# Altium footprint library Package_SON.PcbLib: 75 footprints (part 5 of 5)
Each footprint in its own frame and in the unit in brackets; x right, y up, seen from the top. Pads: shape width x height; smd on the part's side, far side on the other; paste and mask are expansions set on the pad; w line width, h text height; cw(c..) or ccw(c..) is an arc to the next point about the centre after c.
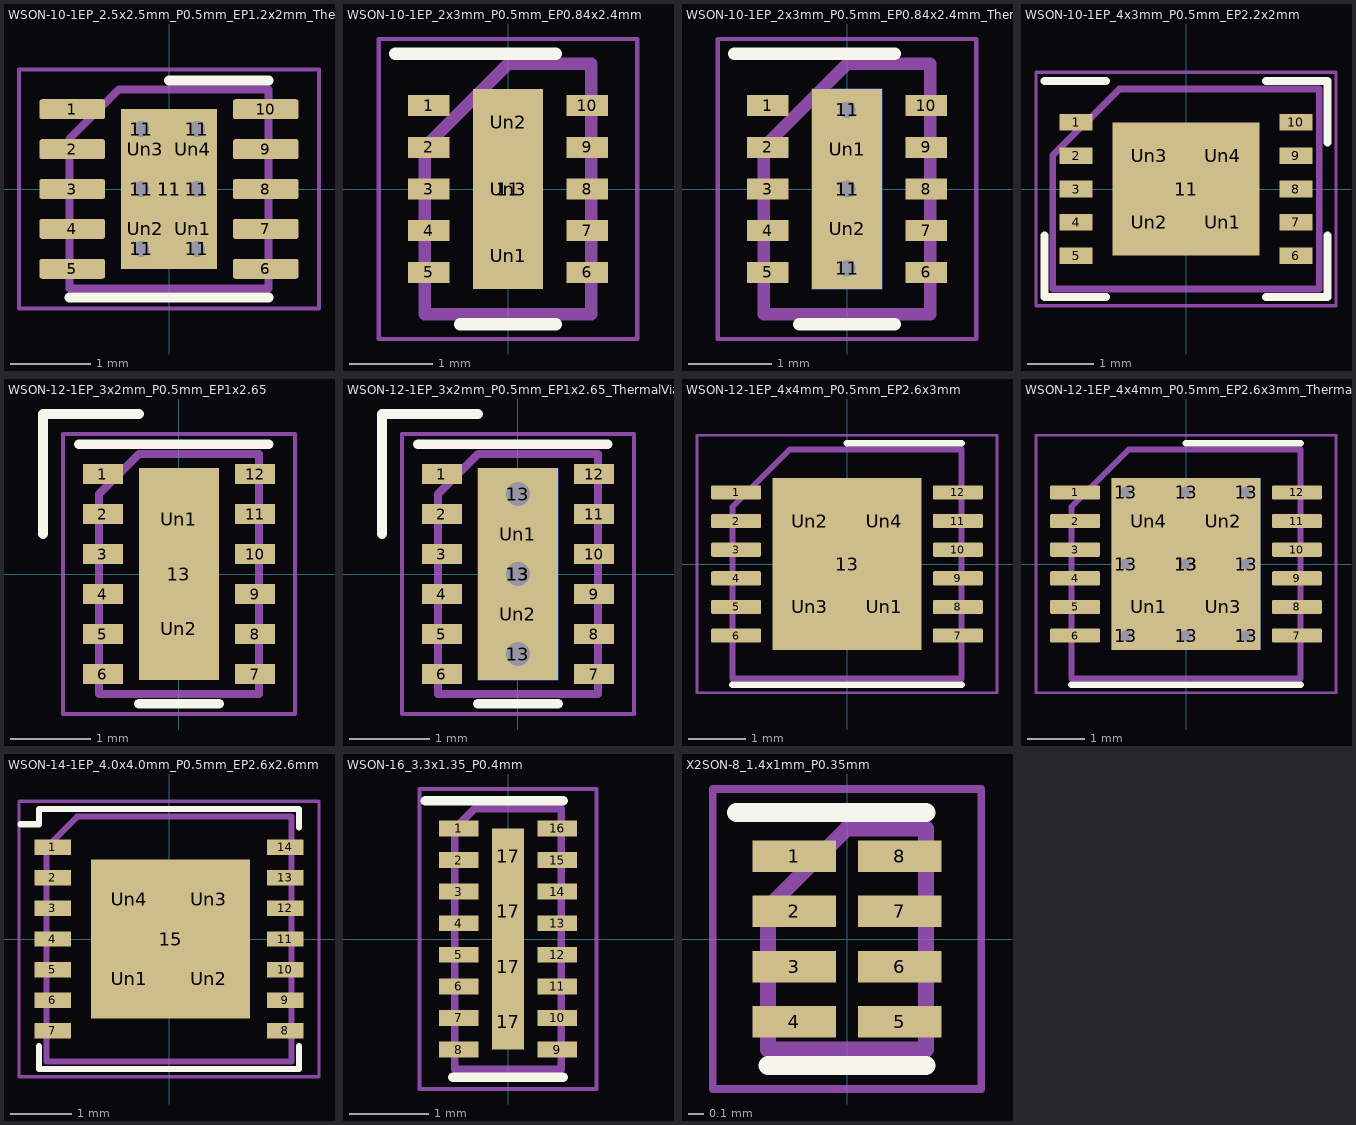
[diagram p4: the footprints below, top view; thin cyan lines are the x and y axes]

## WSON-10-1EP_2.5x2.5mm_P0.5mm_EP1.2x2mm_ThermalVias [mm]
pads (22):
  rrect25% 0.825x0.25 smd: 1(-1.212,1) 2(-1.212,0.5) 3(-1.212,0) 4(-1.212,-0.5) 5(-1.212,-1) 6(1.212,-1) 7(1.212,-0.5) 8(1.212,0) 9(1.212,0.5) 10(1.212,1)
  round 0.5 hole 0.2: 11(-0.35,-0.75) 11(-0.35,0) 11(-0.35,0.75) 11(0.35,-0.75) 11(0.35,0) 11(0.35,0.75)
  rect 1.2x2 smd: 11(0,0)
  rect 1.2x2 smd far side: 11(0,0)
  rrect25% 0.52x0.87 on Top Paste: Un1(0.3,-0.5) Un2(-0.3,-0.5) Un3(-0.3,0.5) Un4(0.3,0.5)
F.SilkS:
  lines w0.12: -1.25,-1.36 1.25,-1.36 ; 0,1.36 1.25,1.36
F.CrtYd:
  lines w0.05: -1.88,-1.5 -1.88,1.5 1.88,1.5 1.88,-1.5 -1.88,-1.5
F.Fab:
  lines w0.1: -1.25,-1.25 1.25,-1.25 1.25,1.25 -0.625,1.25 -1.25,0.625 -1.25,-1.25
  text "'.Designator'" at -2.506,-0.518 h0.62

## WSON-10-1EP_2x3mm_P0.5mm_EP0.84x2.4mm [mm]
pads (14):
  rect 0.5x0.25 smd: 1(-0.95,1) 2(-0.95,0.5) 3(-0.95,0) 4(-0.95,-0.5) 5(-0.95,-1) 6(0.95,-1) 7(0.95,-0.5) 8(0.95,0) 9(0.95,0.5) 10(0.95,1)
  rect 0.84x2.4 smd: 11(0,0)
  rect 0.65x0.61 on Top Paste: Un1(0,-0.8) Un2(0,0.8) Un3(0,0)
F.SilkS:
  lines w0.15: -1.35,1.625 0.575,1.625 ; -0.575,-1.625 0.575,-1.625
F.CrtYd:
  lines w0.05: -1.55,-1.8 1.55,-1.8 1.55,1.8 -1.55,1.8 -1.55,-1.8
F.Fab:
  lines w0.15: -1,-1.5 -1,0.5 0,1.5 1,1.5 1,-1.5 -1,-1.5
  text "'.Designator'" at -2.023,-0.42 h0.5

## WSON-10-1EP_2x3mm_P0.5mm_EP0.84x2.4mm_ThermalVias [mm]
pads (17):
  rect 0.5x0.25 smd: 1(-0.95,1) 2(-0.95,0.5) 3(-0.95,0) 4(-0.95,-0.5) 5(-0.95,-1) 6(0.95,-1) 7(0.95,-0.5) 8(0.95,0) 9(0.95,0.5) 10(0.95,1)
  round 0.5 hole 0.2: 11(0,-0.95) 11(0,0) 11(0,0.95)
  rect 0.84x2.4 smd: 11(0,0)
  rect 0.84x2.4 smd far side: 11(0,0)
  rect 0.65x0.7 on Top Paste: Un1(0,0.475) Un2(0,-0.475)
F.SilkS:
  lines w0.15: -1.35,1.625 0.575,1.625 ; -0.575,-1.625 0.575,-1.625
F.CrtYd:
  lines w0.05: -1.55,-1.8 1.55,-1.8 1.55,1.8 -1.55,1.8 -1.55,-1.8
F.Fab:
  lines w0.15: -1,-1.5 -1,0.5 0,1.5 1,1.5 1,-1.5 -1,-1.5
  text "'.Designator'" at -2.023,-0.42 h0.5

## WSON-10-1EP_4x3mm_P0.5mm_EP2.2x2mm [mm]
pads (15):
  rect 0.5x0.25 smd: 1(-1.65,1) 2(-1.65,0.5) 3(-1.65,0) 4(-1.65,-0.5) 5(-1.65,-1) 6(1.65,-1) 7(1.65,-0.5) 8(1.65,0) 9(1.65,0.5) 10(1.65,1)
  rect 2.2x2 smd: 11(0,0)
  rect 0.88x0.8 on Top Paste: Un1(0.55,-0.5) Un2(-0.55,-0.5) Un3(-0.55,0.5) Un4(0.55,0.5)
F.SilkS:
  lines w0.12: -2.12,-0.7 -2.12,-1.62 -1.2,-1.62 ; -2.12,1.62 -1.2,1.62 ; 1.2,-1.62 2.12,-1.62 2.12,-0.7 ; 1.2,1.62 2.12,1.62 2.12,0.7
F.CrtYd:
  lines w0.05: -2.25,-1.75 -2.25,1.75 2.25,1.75 2.25,-1.75 -2.25,-1.75
F.Fab:
  lines w0.1: -2,-1.5 -2,0.5 -1,1.5 2,1.5 2,-1.5 -2,-1.5
  text "'.Designator'" at -4.047,-0.84 h1

## WSON-12-1EP_3x2mm_P0.5mm_EP1x2.65 [mm]
pads (15):
  rect 0.5x0.25 smd: 1(-0.95,1.25) 2(-0.95,0.75) 3(-0.95,0.25) 4(-0.95,-0.25) 5(-0.95,-0.75) 6(-0.95,-1.25) 7(0.95,-1.25) 8(0.95,-0.75) 9(0.95,-0.25) 10(0.95,0.25) 11(0.95,0.75) 12(0.95,1.25)
  rect 1x2.65 smd: 13(0,0)
  rect 0.95x1.17 on Top Paste: Un1(0,0.685) Un2(0,-0.685)
F.SilkS:
  lines w0.12: -1.7,0.5 -1.7,2 -0.5,2 ; -1.25,1.62 1.12,1.62 ; -0.5,-1.62 0.5,-1.62
F.CrtYd:
  lines w0.05: -1.45,-1.75 -1.45,1.75 1.45,1.75 1.45,-1.75 -1.45,-1.75
F.Fab:
  lines w0.1: -1,-1.5 1,-1.5 1,1.5 -0.5,1.5 -1,1 -1,-1.5
  text "'.Designator'" at 0.395,-1.748 h0.5

## WSON-12-1EP_3x2mm_P0.5mm_EP1x2.65_ThermalVias [mm]
pads (19):
  rect 0.5x0.25 smd: 1(-0.95,1.25) 2(-0.95,0.75) 3(-0.95,0.25) 4(-0.95,-0.25) 5(-0.95,-0.75) 6(-0.95,-1.25) 7(0.95,-1.25) 8(0.95,-0.75) 9(0.95,-0.25) 10(0.95,0.25) 11(0.95,0.75) 12(0.95,1.25)
  round 0.6 hole 0.3: 13(0,-1) 13(0,0) 13(0,1)
  rect 1x2.65 smd far side: 13(0,0)
  rect 1x2.65 smd: 13(0,0)
  rect 0.95x0.8 on Top Paste: Un1(0,0.5) Un2(0,-0.5)
F.SilkS:
  lines w0.12: -1.7,0.5 -1.7,2 -0.5,2 ; -1.25,1.62 1.12,1.62 ; -0.5,-1.62 0.5,-1.62
F.CrtYd:
  lines w0.05: -1.45,-1.75 1.45,-1.75 1.45,1.75 -1.45,1.75 -1.45,-1.75
F.Fab:
  lines w0.1: -1,-1.5 -1,1 -0.5,1.5 1,1.5 1,-1.5 -1,-1.5
  text "'.Designator'" at 0.395,-1.748 h0.5

## WSON-12-1EP_4x4mm_P0.5mm_EP2.6x3mm [mm]
pads (17):
  rrect25% 0.875x0.25 smd: 1(-1.937,1.25) 2(-1.937,0.75) 3(-1.937,0.25) 4(-1.937,-0.25) 5(-1.937,-0.75) 6(-1.937,-1.25) 7(1.937,-1.25) 8(1.937,-0.75) 9(1.937,-0.25) 10(1.937,0.25) 11(1.937,0.75) 12(1.937,1.25)
  rect 2.6x3 smd: 13(0,0)
  rrect24% 1.05x1.21 on Top Paste: Un1(0.65,-0.75) Un2(-0.65,0.75) Un3(-0.65,-0.75) Un4(0.65,0.75)
F.SilkS:
  lines w0.12: -2,-2.11 2,-2.11 ; 0,2.11 2,2.11
F.CrtYd:
  lines w0.05: -2.62,-2.25 2.62,-2.25 2.62,2.25 -2.62,2.25 -2.62,-2.25
F.Fab:
  lines w0.1: -2,-2 2,-2 2,2 -1,2 -2,1 -2,-2
  text "'.Designator'" at -4.047,-0.84 h1

## WSON-12-1EP_4x4mm_P0.5mm_EP2.6x3mm_ThermalVias [mm]
pads (27):
  rrect25% 0.875x0.25 smd: 1(-1.937,1.25) 2(-1.937,0.75) 3(-1.937,0.25) 4(-1.937,-0.25) 5(-1.937,-0.75) 6(-1.937,-1.25) 7(1.937,-1.25) 8(1.937,-0.75) 9(1.937,-0.25) 10(1.937,0.25) 11(1.937,0.75) 12(1.937,1.25)
  round 0.5 hole 0.2: 13(-1.05,-1.25) 13(-1.05,0) 13(-1.05,1.25) 13(0,-1.25) 13(0,0) 13(0,1.25) 13(1.05,-1.25) 13(1.05,0) 13(1.05,1.25)
  rect 2.6x3 smd far side: 13(0,0)
  rect 2.6x3 smd: 13(0,0)
  rrect22% 1.13x1.3 on Top Paste: Un1(-0.65,-0.75) Un2(0.65,0.75) Un3(0.65,-0.75) Un4(-0.65,0.75)
F.SilkS:
  lines w0.12: -2,-2.11 2,-2.11 ; 0,2.11 2,2.11
F.CrtYd:
  lines w0.05: -2.62,-2.25 2.62,-2.25 2.62,2.25 -2.62,2.25 -2.62,-2.25
F.Fab:
  lines w0.1: -2,-2 2,-2 2,2 -1,2 -2,1 -2,-2
  text "'.Designator'" at -4.047,-0.84 h1

## WSON-14-1EP_4.0x4.0mm_P0.5mm_EP2.6x2.6mm [mm]
pads (19):
  rect 0.6x0.25 smd: 1(-1.9,1.5) 2(-1.9,1) 3(-1.9,0.5) 4(-1.9,0) 5(-1.9,-0.5) 6(-1.9,-1) 7(-1.9,-1.5) 8(1.9,-1.5) 9(1.9,-1) 10(1.9,-0.5) 11(1.9,0) 12(1.9,0.5) 13(1.9,1) 14(1.9,1.5)
  rect 2.6x2.6 smd: 15(0.025,0)
  rect 1.05x1.05 on Top Paste: Un1(-0.65,-0.65) Un2(0.65,-0.65) Un3(0.65,0.65) Un4(-0.65,0.65)
F.SilkS:
  lines w0.1: -2.425,1.875 -2.125,1.875 -2.125,2.125 2.125,2.125 2.125,1.825 ; -2.125,-2.125 -2.125,-1.75 ; -2.1,-2.125 2.125,-2.125 2.125,-1.75
F.CrtYd:
  lines w0.05: -2.45,-2.25 -2.45,2.25 2.45,2.25 2.45,-2.25 -2.44,-2.25
F.Fab:
  lines w0.1: -2,-2 2,-2 2,2 -1.5,2 -2,1.5 -2,-2
  text "'.Designator'" at -1.948,-0.42 h0.5

## WSON-16_3.3x1.35_P0.4mm [mm]
pads (20):
  rect 0.5x0.2 smd: 1(-0.625,1.4) 2(-0.625,1) 3(-0.625,0.6) 4(-0.625,0.2) 5(-0.625,-0.2) 6(-0.625,-0.6) 7(-0.625,-1) 8(-0.625,-1.4) 9(0.625,-1.4) 10(0.625,-1) 11(0.625,-0.6) 12(0.625,-0.2) 13(0.625,0.2) 14(0.625,0.6) 15(0.625,1) 16(0.625,1.4)
  rect 0.4x0.7 smd: 17(0,-1.05) 17(0,-0.35) 17(0,0.35) 17(0,1.05)
F.SilkS:
  lines w0.12: -1.05,1.75 0.7,1.75 ; -0.7,-1.75 0.7,-1.75
F.CrtYd:
  lines w0.05: -1.12,-1.9 -1.12,1.9 1.12,1.9 1.12,-1.9 -1.12,-1.9
F.Fab:
  lines w0.1: -0.675,-1.65 -0.675,1.4 -0.425,1.65 0.675,1.65 0.675,-1.65 -0.675,-1.65
  text "'.Designator'" at 0.613,-3.023 h0.75

## X2SON-8_1.4x1mm_P0.35mm [mm]
pads (8):
  rect 0.53x0.2 smd: 1(-0.335,0.525) 2(-0.335,0.175) 3(-0.335,-0.175) 4(-0.335,-0.525) 5(0.335,-0.525) 6(0.335,-0.175) 7(0.335,0.175) 8(0.335,0.525)
F.SilkS:
  lines w0.12: -0.7,0.8 0.5,0.8 ; -0.5,-0.8 0.5,-0.8
F.CrtYd:
  lines w0.05: -0.85,-0.95 -0.85,0.95 0.85,0.95 0.85,-0.95 -0.85,-0.95
F.Fab:
  lines w0.1: -0.5,-0.7 0.5,-0.7 0.5,0.7 0,0.7 -0.5,0.2 -0.5,-0.7
  text "'.Designator'" at 0.257,-1.219 h0.3